# Altium schematic symbol library TBB-RA8-AUDIO-DSP_RA8D1_Interposer.SCHLIB: 5 symbols
Pins are listed as number, name and electrical type; pins without a type are passive.

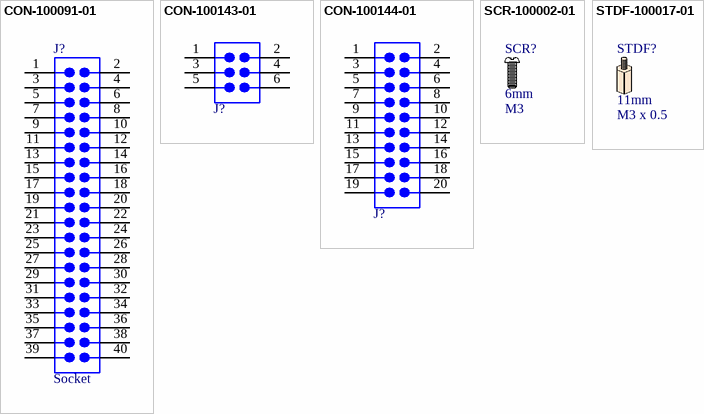
[diagram p0: symbols CON-100091-01 to STDF-100017-01]

## CON-100091-01
designator J?  Gender: Socket  (hidden comment: CON-100091-01)
Wurth Socket Header 2.54mm pitch 40pos 2x20 TH; Mfg Part Number: 61304021821; Legacy Part Number: 160-10004309; Mfg: Wurth Elektronik; Positions: 40; System: Connector; Pitch: 2.54mm; Manufacturer 1: Wurth Elektronik; Manufacturer Part Number 1: 61304021821; Manufacturer: Wurth Elektronik; PN: 61304021821; Supplier 1: Newark; Supplier Part Number 1: 47AC7191; Supplier 2: Mouser; Supplier Part Number 2: 710-61304021821; Supplier 3: Digikey; Supplier Part Number 3: 732-61304021821-ND; Supplier 4: Farnell; Supplier Part Number 4: 2827916
footprint Wurth_61304021821 (Wurth Elektronik 2.54mm 2x20 TH straight socket, 8.5mm body, 3.1mm solder post)
footprint Wurth_61304021821_Dot_Only (Wurth Elektronik 2.54mm 2x20 TH straight socket, 8.5mm body, 3.1mm solder post)
footprint Wurth_61304021821_Dot_End (Wurth Elektronik 2.54mm 2x20 TH straight socket, 8.5mm body, 3.1mm solder post)
pins: 1, 2, 3, 4, 5, 6, 7, 8, 9, 10, 11, 12, 13, 14, 15, 16, 17, 18, 19, 20, 21, 22, 23, 24, 25, 26, 27, 28, 29, 30, 31, 32, 33, 34, 35, 36, 37, 38, 39, 40
2 alternate drawings of the same symbol

## CON-100143-01
designator J?  (value not drawn)
Wurth Socket 2.54mm pitch 6pos 2x3, 3.1mm tail, 8.5mm body, gold plate; Manufacturer: Wurth Elektronik; Mfg Part Number: 61300621821; Positions: 6; System: Connector; Pitch: 2.54mm; Mfg: Wurth Elektronik; PN: 61300621821; Manufacturer 1: Wurth Elektronik; Supplier 1: Newark; Supplier Part Number 1: 61300621821; Manufacturer Part Number 1: 61300621821; Supplier 2: DigiKey; Supplier Part Number 2: 732-61300621821-ND; Supplier 3: Mouser; Supplier Part Number 3: 710-61300621821
footprint Wurth_61300621821 (Wurth Socket Female 0.1" pitch 6pos 2x3, 3.1mm pins, 8.5mm body)
footprint Wurth_61300621821_DOT_ONLY (Wurth Socket Female 0.1" pitch 6pos 2x3, 3.1mm pins, 8.5mm body)
footprint Wurth_61300621821_REVERSE_PINS (Wurth Socket Female 0.1" pitch 6pos 2x3, 3.1mm pins, 8.5mm body, pin numbers reversed)
footprint Wurth_61300621821_REVERSE_PINS_DOT_ONLY (Wurth Socket Female 0.1" pitch 6pos 2x3, 3.1mm pins, 8.5mm body, pin numbers reversed)
pins: 1, 2, 3, 4, 5, 6
2 alternate drawings of the same symbol

## CON-100144-01
designator J?  (value not drawn)
Wurth Socket 2.54mm pitch 20pos 2x10, 3.1mm tail, 8.5mm body, gold plate; Manufacturer: Wurth Elektronik; Mfg Part Number: 61302021821; Positions: 20; System: Connector; Pitch: 2.54mm; Manufacturer 1: Wurth Elektronik; Manufacturer Part Number 1: 61302021821; Mfg: Wurth Elektronik; PN: 61302021821; Supplier 1: Newark; Supplier Part Number 1: 61302021821; Supplier 2: DigiKey; Supplier Part Number 2: 732-61302021821-ND; Supplier 3: Mouser; Supplier Part Number 3: 710-61302021821
footprint Wurth_61302021821 (Wurth Socket Female 0.1" pitch 20pos 2x10 TH, 3.1mm pins, 8.5mm body)
footprint Wurth_61302021821_DOT_ONLY (Wurth Socket Female 0.1" pitch 20pos 2x10 TH, 3.1mm pins, 8.5mm body)
footprint Wurth_61302021821_REVERSE_PINS (Wurth Socket Female 0.1" pitch 20pos 2x10 TH, 3.1mm pins, 8.5mm body, pin numbers reversed)
footprint Wurth_61302021821_REVERSE_PINS_DOT_ONLY (Wurth Socket Female 0.1" pitch 20pos 2x10 TH, 3.1mm pins, 8.5mm body, pin numbers reversed)
pins: 1, 2, 3, 4, 5, 6, 7, 8, 9, 10, 11, 12, 13, 14, 15, 16, 17, 18, 19, 20
2 alternate drawings of the same symbol

## SCR-100002-01
designator SCR?  Length: 6mm  Thread: M3  (hidden comment: SCR-100002-01)  (mechanical)
Screw, Nylon, PH, M3 6mm Slotted; Manufacturer: Keystone Electronics; Mfg Part Number: 29341; Manufacturer 1: Keystone Electronics; Manufacturer Part Number 1: 29341; Supplier 1: Digi-Key; Supplier Part Number 1: 36-9327-ND; Mfg: Keystone Electronics; PN: 29341
footprint KEYSTONE_SCREW_M3_6mm (Screw, M3 x 6mm PH, Nylon)

## STDF-100017-01
designator STDF?, comment Length: 11mm  Thread: M3 x 0.5  (hidden comment: 36M30MF011)  (mechanical)
Standoff, Nylon, M3 Hex, Male-Fem, 11mm; Manufacturer: Essentra Components; Manufacturer 1: Essentra Components; Mfg Part Number: 36M30MF011; Manufacturer Part Number 1: 36M30MF011; Mfg: Essentra Components; PN: 36M30MF011; Supplier 1: DigiKey; Supplier Part Number 1: 145-36M30MF011-ND; Supplier 2: Mouser; Supplier Part Number 2: 144-36M30MF011
footprint Essentra_STDF_MF_M3_11mm (Standoff, Nylon, Male-Fem, M3x0.5, 11mm tall, 6mm Hex)
footprint Essentra_STDF_MF_M3_11mm_reverse (Standoff, Nylon, Male-Fem, M3x0.5, 11mm tall, 6mm Hex)